# EAGLE library part NEWHAVEN_LCD (library seniorDesign)
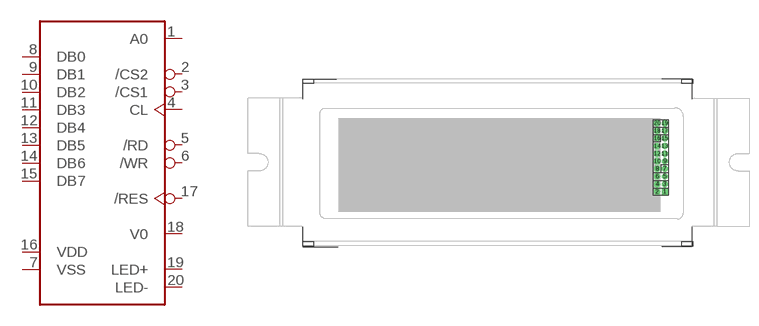
[diagram p8: symbol with the pads of NHD-LCD; footprint NHD-LCD]

Designator prefix -

## NEWHAVEN_LCD  [NHD-LCD]
1  A0  in
2  /CS2  in
3  /CS1  in
4  CL  in
5  /RD  in
6  /WR  in
7  VSS  sup
8  DB0  in
9  DB1  in
10  DB2  in
11  DB3  in
12  DB4  in
13  DB5  in
14  DB6  in
15  DB7  in
16  VDD  sup
17  /RES  in
18  V0  sup
19  LED+  sup
20  LED-  sup

## Footprint NHD-LCD (pad centres in mm)
drill 0.55 pad 0.813 square: 1 26.95,-4.805
drill 0.55 pad 0.813: 2 25.68,-4.805; 3 26.95,-3.535; 4 25.68,-3.535; 5 26.95,-2.265; 6 25.68,-2.265; 7 26.95,-0.995; 8 25.68,-0.995; 9 26.95,0.275; 10 25.68,0.275; 11 26.95,1.545; 12 25.68,1.545; 13 26.95,2.815; 14 25.68,2.815; 15 26.95,4.085; 16 25.68,4.085; 17 26.95,5.355; 18 25.68,5.355; 19 26.95,6.625; 20 25.68,6.625